# EAGLE library part UCH4 (library radiotubes)
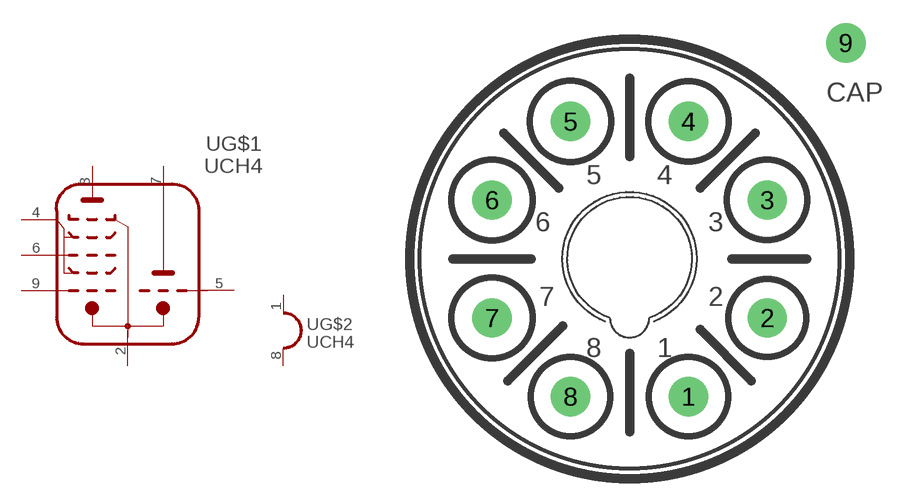
[diagram p106: symbol with the pads of OCTAL-C; footprint OCTAL-C]

Designator prefix -; gates G$1=TRI-HEP G$2=HEATER_1

## UCH4  [OCTAL-C]
1  G$2:H1  pas
2  G$1:K  pas
3  G$1:HA  pas
4  G$1:HSG  pas
5  G$1:TG  pas
6  G$1:HG3  pas
7  G$1:TA  pas
8  G$2:H2  pas
9  G$1:HG1  pas

## Footprint OCTAL-C (pad centres in mm)
drill 1.27 pad 2.54: 1 3.81,-8.89; 2 8.89,-3.81; 3 8.89,3.81; 4 3.81,8.89; 5 -3.81,8.89; 6 -8.89,3.81; 7 -8.89,-3.81; 8 -3.81,-8.89; 9 13.97,13.97